# Altium schematic symbol library BUCKCONVERTER.SCHLIB: 50 symbols (part 1 of 2)
Pins are listed as number, name and electrical type; pins without a type are passive.

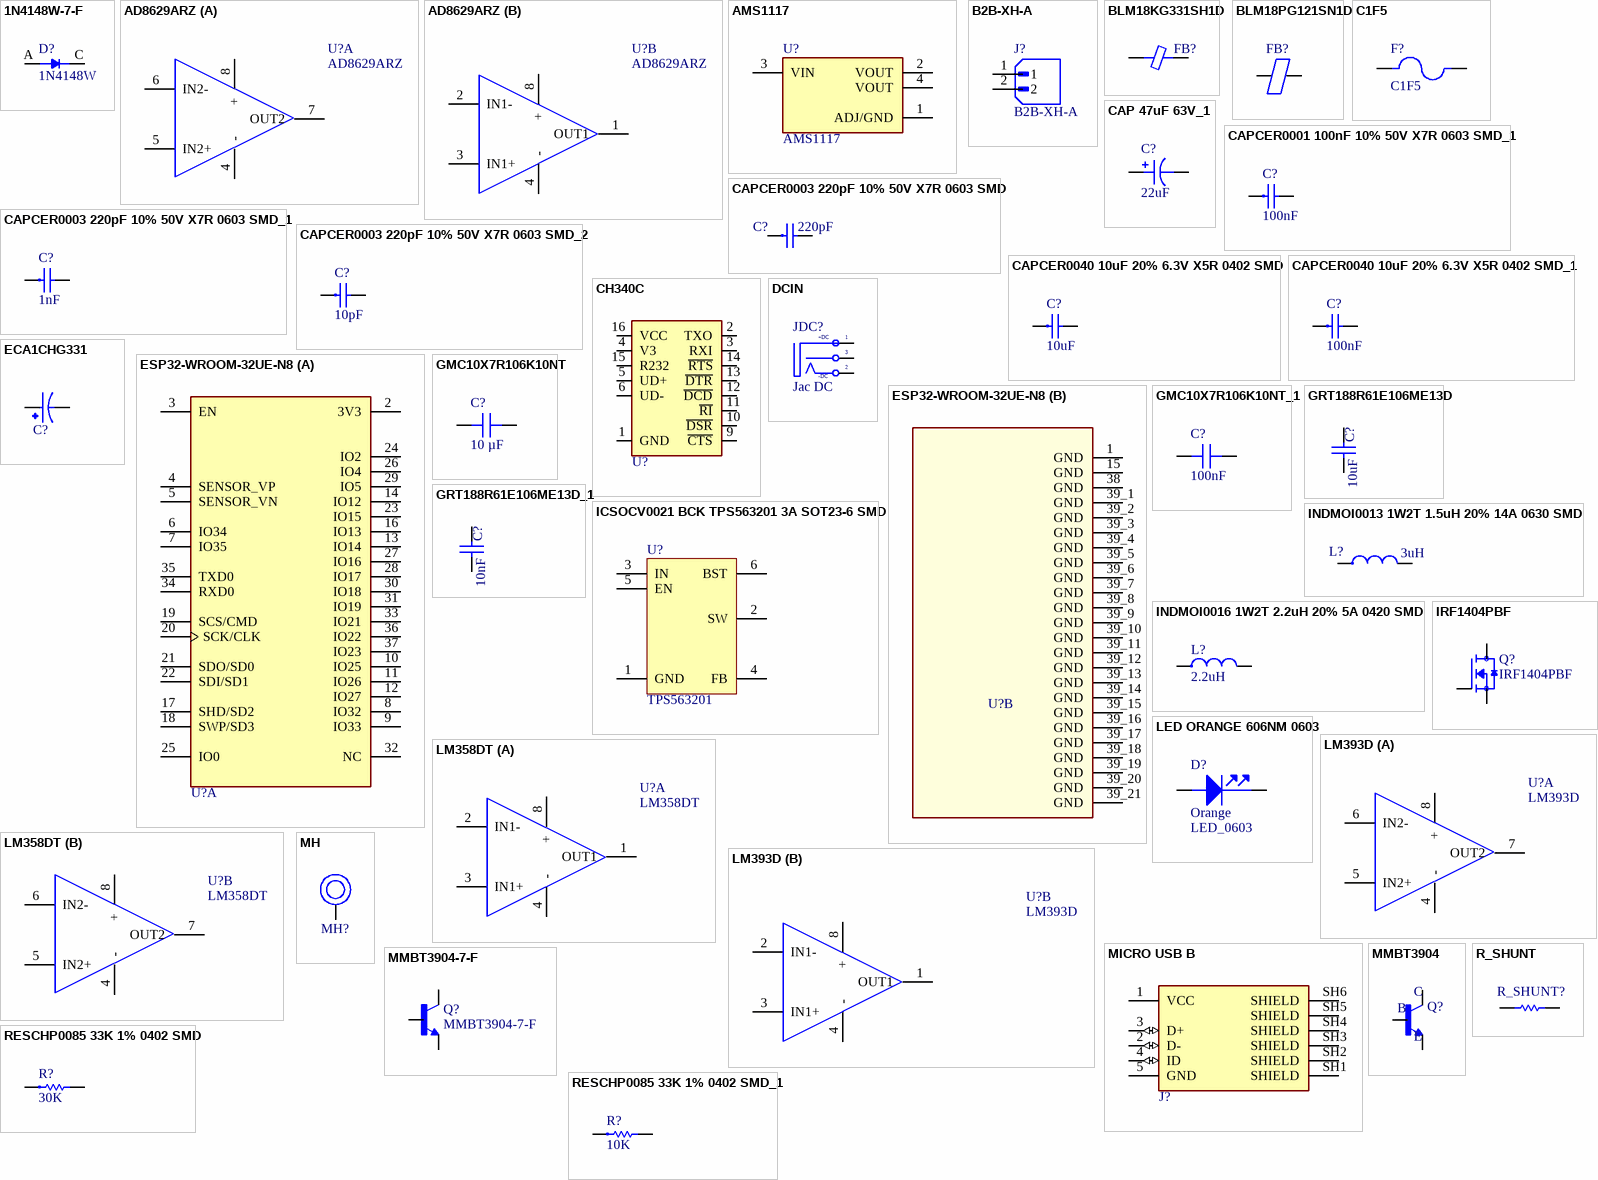
[diagram p0: symbols 1N4148W-7-F to RESCHP0085 33K 1% 0402 SMD_1]

## 1N4148W-7-F
designator D?, comment 1N4148W
Small Signal Diode, Single, 100 V, 300 Ma, 1.25 V, 4 Ns, 2 A Rohs Compliant: Yes; Manufacturer: Diodes; Manufacturer Part Number: 1N4148W-7-F; Forward Current: 150mA; Reverse Recovery Time: 4ns; Max Repetitive Reverse Voltage (Vrrm): 100V; Max Forward Surge Current (Ifsm): 2A; Max Reverse Current: 1uA; Forward Voltage: 1.25V; Average Rectified Current: 300mA; Power Dissipation: 400mW; Polarity: Standard; Capacitance: 2pF; Voltage Rating (DC): 75V; Supplier 1: Arrow Electronics; RoHS: Yes; Category: Rectifier Diodes; Stock 1: 4485000; Pricing 1: 9000=0.0099, 15000=0.0099, 21000=0.0099, 30000=0.0099, 75000=0.0099 (USD); Mount: Surface Mount; Number of Pins: 2; Weight: 0.000353oz; Min Operating Temperature: -65°C; Max Operating Temperature: 150°C; Packaging: Tape and Reel; Peak Non-Repetitive Surge Current: 2A; Max Surge Current: 2A; Package Quantity: 3000; Recovery Time: 4ns; Power Rating: 400mW; Current Rating: 150mA; Output Current: 150mA; Voltage: 100V; Max Reverse Voltage (DC): 100V; Series: -; Reverse Recovery Time-Max: 4ns; Reverse Voltage: 100V; Length: 2.85mm; Width: 1.7mm; Height: 1.25mm; Radiation Hardening: No; Reach SVHC Compliant: No; Lead Free: Lead Free; RoHS Compliant: Yes; ComponentLink1URL: https://datasheet.ciiva.com/8303/ds30086-8303197.pdf?src-supplier=Avnet; ComponentLink1Description: https://datasheet.ciiva.com/8303/ds30086-8303197.pdf?src-supplier=Avnet; ComponentLink2URL: https://datasheet.ciiva.com/911/ds30086-911735.pdf?src-supplier=Digikey; ComponentLink2Description: https://datasheet.ciiva.com/911/ds30086-911735.pdf?src-supplier=Digikey; ComponentLink3URL: https://datasheet.ciiva.com/911/ds30086-911736.pdf?src-supplier=Digikey; ComponentLink3Description: https://datasheet.ciiva.com/911/ds30086-911736.pdf?src-supplier=Digikey; ComponentLink4URL: https://datasheet.ciiva.com/911/ds30086-911734.pdf?src-supplier=Digikey; ComponentLink4Description: https://datasheet.ciiva.com/911/ds30086-911734.pdf?src-supplier=Digikey; ComponentLink5URL: https://datasheet.ciiva.com/1179/1915529-1179304.pdf?src-supplier=Element14; ComponentLink5Description: https://datasheet.ciiva.com/1179/1915529-1179304.pdf?src-supplier=Element14; ComponentLink6URL: https://datasheet.ciiva.com/22695/1915529-22695239.pdf?src-supplier=Element14; ComponentLink6Description: https://datasheet.ciiva.com/22695/1915529-22695239.pdf?src-supplier=Element14; ComponentLink7URL: https://datasheet.ciiva.com/8300/ds30086-8300392.pdf?src-supplier=Avnet; ComponentLink7Description: https://datasheet.ciiva.com/8300/ds30086-8300392.pdf?src-supplier=Avnet; ComponentLink8URL: https://datasheet.ciiva.com/15219/getdatasheetpartid-110030-15219548.pdf?src-supplier=Verical; ComponentLink8Description: https://datasheet.ciiva.com/15219/getdatasheetpartid-110030-15219548.pdf?src-supplier=Verical; ComponentLink9URL: https://datasheet.ciiva.com/4435/ds30086-4435128.pdf?src-supplier=Mouser; ComponentLink9Description: https://datasheet.ciiva.com/4435/ds30086-4435128.pdf?src-supplier=Mouser; Supplier Part Number 1: 1N4148W-7-F
footprint 1N4148
pins: A, C K

## AD8629ARZ
designator U?
IC OPAMP ZERO-DRIFT 2 CIRC 8SOIC Zero-Drift Amplifier 2 Circuit Rail-to-Rail 8-SOIC; Manufacturer: Analog Devices; Manufacturer Lifecycle Status: PRODUCTION; -3db Bandwidth: 2.5MHz; Common Mode Rejection Ratio: 140dB; Gain: 120dB; Input Bias Current: 30pA; Input Capacitance: 10pF; Input Offset Voltage (Vos): 5µV; Max Dual Supply Voltage: 2.5V; Max Supply Current: 2.2mA; Max Supply Voltage: 5V; Min Dual Supply Voltage: 1.35V; Min Supply Voltage: 2.7V; Number of Amplifiers: 2; Operating Supply Voltage: 3V; Output Current per Channel: 30mA; Power Supply Rejection Ratio (PSRR): 130dB; Quiescent Current: 1.1mA; Slew Rate: 1V/µs; Voltage Gain: 145dB; Supplier 1: Arrow Electronics; Manufacturer Part Number: AD8629ARZ; RoHS: Compliant; Category: Amplifiers - Op Amps, Buffer, Instrumentation; Stock 1: 3408; Pricing 1: 1=6,808, 10=4,527, 25=3,207, 98=2,961, 294=2,8, 588=2,655 (USD); Bandwidth: 2.5MHz; Case/Package: R; Contact Plating: Tin; Gain Bandwidth Product: 2.5MHz; Height: 1.5mm; Length: 5mm; Lifecycle Status: Production; Max Operating Temperature: 125°C; Min Operating Temperature: -40°C; Number of Channels: 2; Number of Circuits: 2; Number of Elements: 2; Number of Pins: 8; Operating Supply Current: 2.2mA; Radiation Hardening: No; REACH SVHC: No; Schedule B: 8542330000; Width: 4mm; ComponentLink1URL: https://datasheet.octopart.com:443/AD8629ARZ-Analog-Devices-datasheet-42968418.pdf?src-supplier=Analog+Devices; ComponentLink1Description: https://datasheet.octopart.com:443/AD8629ARZ-Analog-Devices-datasheet-42968418.pdf?src-supplier=Analog+Devices; ComponentLink2URL: https://octopart.com:443/opatz8j6/c1?t=aWeMBPM-JELAnCcbC-n1WTTrasgumx2A8BiJtAhLoS8u_17NOkMzPt3gzRWoakvQXXH3NC3R8gFX4G48g061UaBXGwogGE1Uj-8sqvtrqgK1sY7jDh3eWAwH1CQwPW1Jv6IADWKJqAiwnXxASv0RMDRSm7LbjcggLYfRMDkPTzyCQChyI1msocHWpd5h7OrGjev3Iz3E-o2_l5cB9yrdImHcqb4LtoQO-WcXBt-1DHy8NwqhYNIhrkYjFsx4VNs9gn0Mq788wCztvxO1GP0L9zgs0I_y0NnBDPP4_fEzu3H-nfdZ63w&src-supplier=Analog+Devices; ComponentLink2Description: https://octopart.com:443/opatz8j6/c1?t=aWeMBPM-JELAnCcbC-n1WTTrasgumx2A8BiJtAhLoS8u_17NOkMzPt3gzRWoakvQXXH3NC3R8gFX4G48g061UaBXGwogGE1Uj-8sqvtrqgK1sY7jDh3eWAwH1CQwPW1Jv6IADWKJqAiwnXxASv0RMDRSm7LbjcggLYfRMDkPTzyCQChyI1msocHWpd5h7OrGjev3Iz3E-o2_l5cB9yrdImHcqb4LtoQO-WcXBt-1DHy8NwqhYNIhrkYjFsx4VNs9gn0Mq788wCztvxO1GP0L9zgs0I_y0NnBDPP4_fEzu3H-nfdZ63w&src-supplier=Analog+Devices; ComponentLink3URL: https://datasheet.octopart.com:443/AD8629ARZ-Analog-Devices-datasheet-10103768.pdf?src-supplier=Upverter; ComponentLink3Description: https://datasheet.octopart.com:443/AD8629ARZ-Analog-Devices-datasheet-10103768.pdf?src-supplier=Upverter; ComponentLink4URL: https://datasheet.octopart.com:443/AD8629ARZ-Analog-Devices-datasheet-5322301.pdf?src-supplier=Upverter; ComponentLink4Description: https://datasheet.octopart.com:443/AD8629ARZ-Analog-Devices-datasheet-5322301.pdf?src-supplier=Upverter; ComponentLink5URL: https://datasheet.octopart.com:443/AD8629ARZ-Analog-Devices-datasheet-23752859.pdf?src-supplier=Upverter; ComponentLink5Description: https://datasheet.octopart.com:443/AD8629ARZ-Analog-Devices-datasheet-23752859.pdf?src-supplier=Upverter; ComponentLink6URL: https://datasheet.octopart.com:443/AD8629ARZ-Analog-Devices-datasheet-8858042.pdf?src-supplier=Upverter; ComponentLink6Description: https://datasheet.octopart.com:443/AD8629ARZ-Analog-Devices-datasheet-8858042.pdf?src-supplier=Upverter; ComponentLink7URL: https://datasheet.octopart.com:443/AD8629ARZ-Analog-Devices-datasheet-32048149.pdf?src-supplier=element14+APAC; ComponentLink7Description: https://datasheet.octopart.com:443/AD8629ARZ-Analog-Devices-datasheet-32048149.pdf?src-supplier=element14+APAC; ComponentLink8URL: https://datasheet.octopart.com:443/AD8629ARZ-Analog-Devices-datasheet-101563144.pdf?src-supplier=element14+APAC; ComponentLink8Description: https://datasheet.octopart.com:443/AD8629ARZ-Analog-Devices-datasheet-101563144.pdf?src-supplier=element14+APAC; ComponentLink9URL: https://datasheet.octopart.com:443/AD8629ARZ-Analog-Devices-datasheet-9458.pdf?src-supplier=TME; ComponentLink9Description: https://datasheet.octopart.com:443/AD8629ARZ-Analog-Devices-datasheet-9458.pdf?src-supplier=TME; ComponentLink10URL: https://datasheet.octopart.com:443/AD8629ARZ-Analog-Devices-datasheet-14139723.pdf?src-supplier=iiiC; ComponentLink10Description: https://datasheet.octopart.com:443/AD8629ARZ-Analog-Devices-datasheet-14139723.pdf?src-supplier=iiiC; ComponentLink11URL: https://datasheet.octopart.com:443/AD8629ARZ-Analog-Devices-datasheet-9815337.pdf?src-supplier=RS+(Formerly+Allied+Electronics); ComponentLink11Description: https://datasheet.octopart.com:443/AD8629ARZ-Analog-Devices-datasheet-9815337.pdf?src-supplier=RS+(Formerly+Allied+Electronics); ComponentLink12URL: http://sigma.octopart.com:80/conflict_mineral_statement/Analog-Devices-company-33.pdf?src-supplier=Compliance+Statements; ComponentLink12Description: http://sigma.octopart.com:80/conflict_mineral_statement/Analog-Devices-company-33.pdf?src-supplier=Compliance+Statements; ComponentLink13URL: https://octopart.com:443/opatz8j6/c1?t=GuIiLQSqHR5UtH-ccvOgZ_rMPgdoDO9MBhNGz1lrC6uFtX1Ty2dLJJE3esEi3LdxH2WSZGSDEcND3r14vXW1YQGdY8YbjY8rd4j2rV3vc971hwplIN7mnrJEC29glHuaUEUKb6evx9vL8H9Okke6qfKuVvzeC_JtJbwHi1gEpzxsUdW9RNtRF7Nil8ktKupsHU6F-uGzSovI8YJeOX7T-MxaDqzLTa9fFFbbKuS3iXo0ronF4OJTx1UqYg6AqVsvYcdlTWC_iXVQ4-Dde1iCmj54rakYuCUCE_xobSzT3w-tBTMj6Ew&src-supplier=Compliance+Statements; ComponentLink13Description: https://octopart.com:443/opatz8j6/c1?t=GuIiLQSqHR5UtH-ccvOgZ_rMPgdoDO9MBhNGz1lrC6uFtX1Ty2dLJJE3esEi3LdxH2WSZGSDEcND3r14vXW1YQGdY8YbjY8rd4j2rV3vc971hwplIN7mnrJEC29glHuaUEUKb6evx9vL8H9Okke6qfKuVvzeC_JtJbwHi1gEpzxsUdW9RNtRF7Nil8ktKupsHU6F-uGzSovI8YJeOX7T-MxaDqzLTa9fFFbbKuS3iXo0ronF4OJTx1UqYg6AqVsvYcdlTWC_iXVQ4-Dde1iCmj54rakYuCUCE_xobSzT3w-tBTMj6Ew&src-supplier=Compliance+Statements; Supplier Part Number 1: AD8629ARZ
footprint AD8629ARZ
part A pins: 4 -, 5 IN2+, 6 IN2-, 7 OUT2, 8 +
part B pins: 1 OUT1, 2 IN1-, 3 IN1+, 4 -, 8 +

## AMS1117
designator U?
1A LOW DROPOUT VOLTAGE REGULATOR SOT-223; MF: Advanced Monolithic Systems; Price: None; Availability: Not in stock; Package: SOT-223 Seeed Technology; MP: AMS1117; Value: *; SnapEDA_Link: https://www.snapeda.com/parts/AMS1117/Advanced+Monolithic+Systems/view-part/?ref=snap; Check_prices: https://www.snapeda.com/parts/AMS1117/Advanced+Monolithic+Systems/view-part/?ref=eda
footprint SOT229P700X180-4N
footprint AMS1117
pins: 1 ADJ/GND (power), 2 VOUT, 3 VIN, 4 VOUT

## B2B-XH-A
designator J?
MF: {'manufacturer': u'JST Sales America Inc.'}; Package: None; Price: None; Value: *; MP: B2B-XH-A; Availability: Unavailable
footprint JST_B2B-XH-A
pins: 1, 2

## BLM18KG331SH1D
designator FB?, comment 330 Ohms @ 100 MHz  (value not drawn)
FERRITE BEAD 330 OHM 0603 1LN; Part Number: BLM18KG331SH1D; Manufacturer: Murata Electronics; Current Rating (Max): 1.7A; DC Resistance (DCR) (Max): 80mOhm; Filter Type: Power Line; Number of Lines: 1; ComponentLink1Description: Datasheet; ComponentLink1URL: https://www.murata.com/en-global/products/productdata/8796737273886/QNFA9101.pdf; ComponentLink2Description: DigiKey Link; ComponentLink2URL: https://www.digikey.com/en/products/detail/murata-electronics/BLM18KG331SH1D/5881246; Device Package: 0603 (1608 Metric); Height (Max): 0.037" (0.95mm); Impedance @ Frequency: 330 Ohms @ 100 MHz; LastUpdated: 3/11/2024 7:43:28 AM; Lifecycle Status: Active; Minimum Order: 1; Mounting Type: Surface Mount; Operating Temperature: -55°C ~ 125°C; Package / Case: 0603 (1608 Metric); Packaging: TapeAndReel; PartId: 932; Part Status: Active; Price: 0.02; Ratings: AEC-Q200; Series: EMIFIL®, BLM18; Size / Dimension: 0.063" L x 0.032" W (1.60mm x 0.80mm); Supplier 1: DigiKey; Supplier Part Number 1: 490-13257-1-ND; Value: 330 Ohms @ 100 MHz
footprint FER 0603_1608
footprint FB_0603
pins: 1, 2

## BLM18PG121SN1D
designator FB?, comment 100MHz 2A 50mOhm  (value not drawn)
Ferrite Beads Multi-Layer 120Ohm 25% 100MHz 2A 50mOhm DCR 0603 Paper T/R; Manufacturer: Murata; Manufacturer Part Number: BLM18PG121SN1D; Material: Steel,Ferrite; Impedance: 120R; Number of Lines: 1; DC Resistance (DCR): 50mR; Number of Circuits: 1NUMBER; Shielding: 202Shielding; Supplier 1: Mouser; RoHS: Yes; Category: Ferrite Beads and Chips; Stock 1: 377848; Pricing 1: 1=0.1, 10=0.059, 50=0.047, 100=0.042, 1000=0.029, 10000=0.018 (USD); Case/Package: 0603; Number of Pins: 2; Core Material: Ferrite; Case Code (Metric): 1608; Case Code (Imperial): 0603; Min Operating Temperature: -55°C; Max Operating Temperature: 125°C; Tolerance: 25%; Package Quantity: 1; Max Current Rating: 2A; Packaging: Tape and Reel; Current Rating: 2A; Max DC Current: 2A; Termination: SMD/SMT; Test Frequency: 100MHz; DC Current: 2A; Frequency: 100MHz; Series: BLM18P; DC Resistance-Max: 50mR; RMS Current (Irms): 2A; Series Resistance: 50mR; Length: 1.6mm; Width: 0.8mm; Height: 0.8mm; Depth: 0.8mm; Radiation Hardening: No; Reach SVHC Compliant: No; Lead Free: Lead Free; RoHS Compliant: Yes; ComponentLink1URL: https://datasheet.ciiva.com/5709/1740433-5709171.pdf?src-supplier=Farnell; ComponentLink1Description: https://datasheet.ciiva.com/5709/1740433-5709171.pdf?src-supplier=Farnell; ComponentLink2URL: https://datasheet.ciiva.com/19454/1845013-19454715.pdf?src-supplier=Jameco; ComponentLink2Description: https://datasheet.ciiva.com/19454/1845013-19454715.pdf?src-supplier=Jameco; ComponentLink3URL: https://datasheet.ciiva.com/11799/0900766b81275ca5-11799546.pdf?src-supplier=Rs; ComponentLink3Description: https://datasheet.ciiva.com/11799/0900766b81275ca5-11799546.pdf?src-supplier=Rs; ComponentLink4URL: https://datasheet.ciiva.com/3854/5emiapbde-1-3854039.pdf?src-supplier=Arrow+Electronics; ComponentLink4Description: https://datasheet.ciiva.com/3854/5emiapbde-1-3854039.pdf?src-supplier=Arrow+Electronics; ComponentLink5URL: https://datasheet.ciiva.com/29347/442365-da-01-en-chip-drossel-0603-120r-2000ma-1-6x0-8mm-29347911.pdf?src-supplier=Conrad; ComponentLink5Description: https://datasheet.ciiva.com/29347/442365-da-01-en-chip-drossel-0603-120r-2000ma-1-6x0-8mm-29347911.pdf?src-supplier=Conrad; ComponentLink6URL: https://datasheet.ciiva.com/8021/1740433-8021493.pdf?src-supplier=Element14; ComponentLink6Description: https://datasheet.ciiva.com/8021/1740433-8021493.pdf?src-supplier=Element14; ComponentLink7URL: https://datasheet.ciiva.com/8021/1740433-8021494.pdf?src-supplier=Element14; ComponentLink7Description: https://datasheet.ciiva.com/8021/1740433-8021494.pdf?src-supplier=Element14; ComponentLink8URL: https://datasheet.ciiva.com/14122/blm-series-eng-tds-14122905.pdf?src-supplier=Distrelec; ComponentLink8Description: https://datasheet.ciiva.com/14122/blm-series-eng-tds-14122905.pdf?src-supplier=Distrelec; ComponentLink9URL: https://datasheet.ciiva.com/6212/l0110s0100blm18p-6212502.pdf?src-supplier=Digikey; ComponentLink9Description: https://datasheet.ciiva.com/6212/l0110s0100blm18p-6212502.pdf?src-supplier=Digikey; ComponentLink10URL: https://datasheet.ciiva.com/6212/l0110s0100blm18p-6212504.pdf?src-supplier=Digikey; ComponentLink10Description: https://datasheet.ciiva.com/6212/l0110s0100blm18p-6212504.pdf?src-supplier=Digikey; ComponentLink11URL: https://datasheet.ciiva.com/3081/l0110s0100blm18p-3081632.pdf?src-supplier=Avnet; ComponentLink11Description: https://datasheet.ciiva.com/3081/l0110s0100blm18p-3081632.pdf?src-supplier=Avnet; ComponentLink12URL: https://datasheet.ciiva.com/41449/001172297-da-01-en-drossel-0603-120r-1-6x0-8mm-4000st-41449659.pdf?src-supplier=Conrad; ComponentLink12Description: https://datasheet.ciiva.com/41449/001172297-da-01-en-drossel-0603-120r-1-6x0-8mm-4000st-41449659.pdf?src-supplier=Conrad; Supplier Part Number 1: 81-BLM18PG121SN1D
footprint FB 0603
pins: 1, 2

## C1F5
designator F?
Fuse Chip Fast Acting 5A 125V SMD Solder Pad 1206 3.2 X 1.58 X 0.63mm; Manufacturer: Bel TRP; Voltage Rating (DC): 63V; DC Cold Resistance: 20mR; Fuse Type: Board Mount (Cartridge Style Excluded); Supplier 1: Newark; Manufacturer Part Number: C1F5; RoHS: Yes; Category: Uncategorized; Mount: Surface Mount; Case/Package: 1206; Number of Pins: 2; Contact Plating: Tin; Case Code (Metric): 3216; Case Code (Imperial): 1206; Min Operating Temperature: -55°C; Max Operating Temperature: 125°C; Packaging: Cut Tape; Voltage Rating: 125V; Series: C1F; Voltage Rating (AC): 125V; ComponentLink1URL: http://www.mouser.com/ds/2/643/C1F-594910.pdf?src-supplier=Mouser; ComponentLink1Description: http://www.mouser.com/ds/2/643/C1F-594910.pdf?src-supplier=Mouser; ComponentLink2URL: http://belfuse.com/pdfs/C1F.pdf?src-supplier=Avnet; ComponentLink2Description: http://belfuse.com/pdfs/C1F.pdf?src-supplier=Avnet; ComponentLink3URL: https://belfuse.com/resources/datasheets/circuitprotection/ds-cp-c1f-series.pdf?src-supplier=Digikey; ComponentLink3Description: https://belfuse.com/resources/datasheets/circuitprotection/ds-cp-c1f-series.pdf?src-supplier=Digikey; Supplier Part Number 1: 48AC8480
footprint FUSE C1F5
pins: 1, 2

## CAP 47uF 63V_1
designator C?, comment 22uF
footprint 330UF-5mm
pins: 1, 2

## CAPCER0001 100nF 10% 50V X7R 0603 SMD_1
designator C?, comment 100nF
CAP CER 100nF 10% 50V X7R 0603 SMD; LINE: SMT; TYPE: EP; UNIT: PCS; TMG PN: CAPCER0001; TMG CODE: None; CERTIFICATION: NA; CLASS: B; MOUNT: SMD; ComponentLink1Description: Datasheet; ComponentLink1URL: https://datasheet.lcsc.com/lcsc/1811021431_Samsung-Electro-Mechanics-CL10B104KB8NNNC_C1591.pdf; Footprint: 0603
footprint CAP-CER0603-0.8H (CAP CER 0603 0.8 Height SMD Density Level B)
pins: 1, 2

## CAPCER0003 220pF 10% 50V X7R 0603 SMD
designator C?, comment 220pF
CAP CER 220pF 10% 50V X7R 0603 SMD; LINE: SMT; TYPE: EP; UNIT: PCS; TMG PN: CAPCER0003; TMG CODE: None; CERTIFICATION: NA; CLASS: B; MOUNT: SMD; ComponentLink1Description: Datasheet; ComponentLink1URL: https://datasheet.lcsc.com/lcsc/1810261515_Samsung-Electro-Mechanics-CL10B221KB8NNNC_C1603.pdf; Footprint: 0603
footprint CAP-CER0603-0.8H (CAP CER 0603 0.8 Height SMD Density Level B)
pins: 1, 2

## CAPCER0003 220pF 10% 50V X7R 0603 SMD_1
designator C?, comment 1nF
CAP CER 220pF 10% 50V X7R 0603 SMD; LINE: SMT; TYPE: EP; UNIT: PCS; TMG PN: CAPCER0003; TMG CODE: None; CERTIFICATION: NA; CLASS: B; MOUNT: SMD; ComponentLink1Description: Datasheet; ComponentLink1URL: https://datasheet.lcsc.com/lcsc/1810261515_Samsung-Electro-Mechanics-CL10B221KB8NNNC_C1603.pdf; Footprint: 0603
footprint CAP-CER0603-0.8H (CAP CER 0603 0.8 Height SMD Density Level B)
pins: 1, 2

## CAPCER0003 220pF 10% 50V X7R 0603 SMD_2
designator C?, comment 10pF
CAP CER 220pF 10% 50V X7R 0603 SMD; LINE: SMT; TYPE: EP; UNIT: PCS; TMG PN: CAPCER0003; TMG CODE: None; CERTIFICATION: NA; CLASS: B; MOUNT: SMD; ComponentLink1Description: Datasheet; ComponentLink1URL: https://datasheet.lcsc.com/lcsc/1810261515_Samsung-Electro-Mechanics-CL10B221KB8NNNC_C1603.pdf; Footprint: 0603
footprint CAP-CER0603-0.8H (CAP CER 0603 0.8 Height SMD Density Level B)
pins: 1, 2

## CAPCER0040 10uF 20% 6.3V X5R 0402 SMD
designator C?, comment 10uF
CAP CER 10uF 20% 6.3V X5R 0402 SMD; LINE: SMT; TYPE: EP; UNIT: PCS; TMG PN: CAPCER0013; TMG CODE: None; CERTIFICATION: NA; CLASS: B; MOUNT: SMD; ComponentLink1Description: Datasheet; ComponentLink1URL: https://datasheet.lcsc.com/lcsc/2304140030_YAGEO-CC0402MRX5R5BB106_C105884.pdf; Footprint: 0402
footprint CAP-CER0402-20mil (CAP CER 0402 0.5 Height SMD Density Level B)
pins: 1, 2

## CAPCER0040 10uF 20% 6.3V X5R 0402 SMD_1
designator C?, comment 100nF
CAP CER 10uF 20% 6.3V X5R 0402 SMD; LINE: SMT; TYPE: EP; UNIT: PCS; TMG PN: CAPCER0013; TMG CODE: None; CERTIFICATION: NA; CLASS: B; MOUNT: SMD; ComponentLink1Description: Datasheet; ComponentLink1URL: https://datasheet.lcsc.com/lcsc/2304140030_YAGEO-CC0402MRX5R5BB106_C105884.pdf; Footprint: 0402
footprint CAP-CER0402-20mil (CAP CER 0402 0.5 Height SMD Density Level B)
pins: 1, 2

## CH340C
designator U?  (value not drawn)
footprint CH340C
pins: 1 GND, 2 TXO, 3 RXI, 4 V3, 5 UD+, 6 UD-, 9 ~{CTS}, 10 ~{DSR}, 11 ~{RI}, 12 ~{DCD}, 13 ~{DTR}, 14 ~{RTS}, 15 R232, 16 VCC

## DCIN
designator JDC?, comment Jac DC
Jac DC input; Value: Jac DC
footprint DC0 (Jac DC input)
footprint DC1 (WR-DC_DC Power Jack_Right Angled_THT Center Pin ?0.65_Plug ID ?0.75_Plug OD ?2.35_with Peg)
footprint DC2 (WR-DC_DC Power Jack_Vertical_THT WR-DC_DC Power Jack_Vertical_THT)
footprint DC3 (WR-DC_DC Power Jack_Vertical_THT Center Pin ?2.5_Plug ID ?2.55_Plug OD ?5.5)
footprint DC4 (WR-DC_DC Power Jack_Right Angled_THT Center Pin ?1.0_Plug ID ?1.05_Plug OD ?3.5_with Peg)
footprint DC5 (WR-DC_DC Power Jack_Right Angled_THT Center Pin ?1.3_Plug ID ?1.35_Plug OD ?3.5_with Peg)
pins: 1 T "Tip", 2 TN "Tip Normal (Break Contact)", 3 S (power) "Sleeve (Ground)"
text: +DC; -DC

## ECA1CHG331
designator C?  (value not drawn)
Cap Aluminum 330uF 16V 20% (8 X 11.5mm) Radial Aluminum Cylindrical Can 3.5mm 260mA 1000 hr 105C Bulk; MP: ECA-1CHG331; MF: Panasonic; Availability: In Stock; Package: RADIAL-2 Panasonic; Check_prices: https://www.snapeda.com/parts/ECA-1CHG331/Panasonic/view-part/?ref=eda; Price: None; SnapEDA_Link: https://www.snapeda.com/parts/ECA-1CHG331/Panasonic/view-part/?ref=snap; Value: *; Purchase-URL: https://pricing.snapeda.com/search/part/ECA-1CHG331/?ref=eda
footprint CAPPRD350W60D800H1150
footprint 330UF-5mm
pins: 1, 2

## ESP32-WROOM-32UE-N8
designator U?  (value not drawn)
Multiprotocol Modules SMD module ESP32-WROOM-32UE, ESP32-D0WD-V3, ESP32 ECO V3,; Manufacturer: Espressif Systems; Supplier 1: Digikey; Manufacturer Part Number: ESP32-WROOM-32UE-N8; RoHS: No; Category: LDO; Stock 1: 3266; Pricing 1: 1=5,28, 10=4,566, 25=4,3196, 100=3,9802, 250=3,7768 (USD); ComponentLink1URL: https://datasheet.octopart.com/ESP32-WROOM-32UE-N8-Espressif-Systems-datasheet-188867343.pdf?src-supplier=TME; ComponentLink1Description: https://datasheet.octopart.com/ESP32-WROOM-32UE-N8-Espressif-Systems-datasheet-188867343.pdf?src-supplier=TME; Supplier Part Number 1: 1965-ESP32-WROOM-32UE-N8CT-ND
footprint ESP32S
part A pins: 2 3V3, 3 EN, 4 SENSOR_VP, 5 SENSOR_VN, 6 IO34, 7 IO35, 8 IO32, 9 IO33, 10 IO25, 11 IO26, 12 IO27, 13 IO14, 14 IO12, 16 IO13, 17 SHD/SD2, 18 SWP/SD3, 19 SCS/CMD, 20 SCK/CLK, 21 SDO/SD0, 22 SDI/SD1, 23 IO15, 24 IO2, 25 IO0, 26 IO4, 27 IO16, 28 IO17, 29 IO5, 30 IO18, 31 IO19, 32 NC, 33 IO21, 34 RXD0, 35 TXD0, 36 IO22, 37 IO23
part B pins: 1 GND, 15 GND, 38 GND, 39_1 GND, 39_2 GND, 39_3 GND, 39_4 GND, 39_5 GND, 39_6 GND, 39_7 GND, 39_8 GND, 39_9 GND, 39_10 GND, 39_11 GND, 39_12 GND, 39_13 GND, 39_14 GND, 39_15 GND, 39_16 GND, 39_17 GND, 39_18 GND, 39_19 GND, 39_20 GND, 39_21 GND

## GMC10X7R106K10NT
designator C?, comment 10 µF
CAP0603 X7R 10UF 10% 10V; Part Number: GMC10X7R106K10NT; manufacturer: Cal-Chip Electronics, Inc.; Applications: General Purpose; Capacitance: 10 µF; componentlink1description: Datasheet; componentlink1url: https://88ce57.p3cdn1.secureserver.net/wp-content/uploads/2023/01/gmc_series-2.pdf; componentlink2description: DigiKey Link; componentlink2url: https://www.digikey.com/en/products/detail/cal-chip-electronics-inc/GMC10X7R106K10NT/18151126; Device Package: 0603 (1608 Metric); lastupdated: 2/9/2024 8:09:39 PM; Lifecycle Status: Active; Minimum Order: 1; Mounting Type: Surface Mount, MLCC; Operating Temperature: -55°C ~ 125°C; Package / Case: 0603 (1608 Metric); packaging: TapeAndReel; partid: 49835; Part Status: Active; price: 0.26; series: GMC; Size / Dimension: 0.063" L x 0.031" W (1.60mm x 0.80mm); Supplier 1: DigiKey; Supplier Part Number 1: 4713-GMC10X7R106K10NTCT-ND; Temperature Coefficient: X7R; Thickness (Max): 0.039" (1.00mm); Tolerance: ±10%; Voltage - Rated: 10V; Value: 10 µF
footprint CAP 0603_1608
footprint CAP 0603
pins: 1, 2

## GMC10X7R106K10NT_1
designator C?, comment 100nF
CAP0603 X7R 10UF 10% 10V; Part Number: GMC10X7R106K10NT; manufacturer: Cal-Chip Electronics, Inc.; Capacitance: 10 µF; Value: 100nF; Applications: General Purpose; componentlink1description: Datasheet; componentlink1url: https://88ce57.p3cdn1.secureserver.net/wp-content/uploads/2023/01/gmc_series-2.pdf; componentlink2description: DigiKey Link; componentlink2url: https://www.digikey.com/en/products/detail/cal-chip-electronics-inc/GMC10X7R106K10NT/18151126; Device Package: 0603 (1608 Metric); lastupdated: 2/9/2024 8:09:39 PM; Lifecycle Status: Active; Minimum Order: 1; Mounting Type: Surface Mount, MLCC; Operating Temperature: -55°C ~ 125°C; Package / Case: 0603 (1608 Metric); packaging: TapeAndReel; partid: 49835; Part Status: Active; price: 0.26; series: GMC; Size / Dimension: 0.063" L x 0.031" W (1.60mm x 0.80mm); Supplier 1: DigiKey; Supplier Part Number 1: 4713-GMC10X7R106K10NTCT-ND; Temperature Coefficient: X7R; Thickness (Max): 0.039" (1.00mm); Tolerance: ±10%; Voltage - Rated: 10V
footprint CAP 0603_1608
footprint CAP 0603
pins: 1, 2

## GRT188R61E106ME13D
designator C?, comment 10uF
SMD Multilayer Ceramic Capacitor, 10 ï¿½F, 25 V, 0603 [1608 Metric], ï¿½ 20%, X5R; Manufacturer: Murata; Manufacturer Part Number: GRT188R61E106ME13D; Material: 4241ConductorMaterial; Voltage Rating: 25V; Supplier 1: Digikey; RoHS: No; Category: Ceramic Capacitors; Stock 1: 354696; Pricing 1: 1=0.25, 10=0.151, 100=0.0931, 4000=0.06965, 8000=0.0635, 12000=0.05993, 20000=0.05654, 28000=0.04257 (USD); Mount: Surface Mount; Case/Package: 0603; Case Code (Metric): 1608; Case Code (Imperial): 0603; Weight: 0.000917oz; Min Operating Temperature: -55°C; Max Operating Temperature: 85°C; Packaging: Cut Tape; Capacitance: 10uF; Tolerance: 20%; Series: GRT; Termination: Standard; Voltage Rating (DC): 25V; Dielectric: X5R; Package Quantity: 4000; Length: 1.6mm; Width: 0.8mm; Height: 0.8mm; Ratings: AEC-Q200; RoHS Compliant: No; ComponentLink1URL: https://datasheet.octopart.com/GRT188R61E106ME13D-Murata-datasheet-149523595.pdf?src-supplier=Newark; ComponentLink1Description: https://datasheet.octopart.com/GRT188R61E106ME13D-Murata-datasheet-149523595.pdf?src-supplier=Newark; ComponentLink2URL: https://datasheet.octopart.com/GRT188R61E106ME13D-Murata-datasheet-82944876.pdf?src-supplier=Future+Electronics; ComponentLink2Description: https://datasheet.octopart.com/GRT188R61E106ME13D-Murata-datasheet-82944876.pdf?src-supplier=Future+Electronics; ComponentLink3URL: http://search.murata.co.jp/Ceramy/image/img/A01X/G101/ENG/GRT188R61E106ME13-01.pdf?src-supplier=Digikey; ComponentLink3Description: http://search.murata.co.jp/Ceramy/image/img/A01X/G101/ENG/GRT188R61E106ME13-01.pdf?src-supplier=Digikey; ComponentLink4URL: https://search.murata.co.jp/Ceramy/image/img/A01X/G101/ENG/GRT188R61E106ME13-01.pdf?src-supplier=Digikey; ComponentLink4Description: https://search.murata.co.jp/Ceramy/image/img/A01X/G101/ENG/GRT188R61E106ME13-01.pdf?src-supplier=Digikey; ComponentLink5URL: https://datasheet.octopart.com/GRT188R61E106ME13D-Murata-datasheet-165579666.pdf?src-supplier=TME; ComponentLink5Description: https://datasheet.octopart.com/GRT188R61E106ME13D-Murata-datasheet-165579666.pdf?src-supplier=TME; Supplier Part Number 1: 490-12323-1-ND
footprint Cap cer 0603
pins: 1, 2

## GRT188R61E106ME13D_1
designator C?, comment 10nF
SMD Multilayer Ceramic Capacitor, 10 ï¿½F, 25 V, 0603 [1608 Metric], ï¿½ 20%, X5R; Manufacturer: Murata; Manufacturer Part Number: GRT188R61E106ME13D; Material: 4241ConductorMaterial; Capacitance: 10uF; Voltage Rating: 25V; Supplier 1: Digikey; RoHS: No; Category: Ceramic Capacitors; Stock 1: 354696; Pricing 1: 1=0.25, 10=0.151, 100=0.0931, 4000=0.06965, 8000=0.0635, 12000=0.05993, 20000=0.05654, 28000=0.04257 (USD); Mount: Surface Mount; Case/Package: 0603; Case Code (Metric): 1608; Case Code (Imperial): 0603; Weight: 0.000917oz; Min Operating Temperature: -55°C; Max Operating Temperature: 85°C; Packaging: Cut Tape; Tolerance: 20%; Series: GRT; Termination: Standard; Voltage Rating (DC): 25V; Dielectric: X5R; Package Quantity: 4000; Length: 1.6mm; Width: 0.8mm; Height: 0.8mm; Ratings: AEC-Q200; RoHS Compliant: No; ComponentLink1URL: https://datasheet.octopart.com/GRT188R61E106ME13D-Murata-datasheet-149523595.pdf?src-supplier=Newark; ComponentLink1Description: https://datasheet.octopart.com/GRT188R61E106ME13D-Murata-datasheet-149523595.pdf?src-supplier=Newark; ComponentLink2URL: https://datasheet.octopart.com/GRT188R61E106ME13D-Murata-datasheet-82944876.pdf?src-supplier=Future+Electronics; ComponentLink2Description: https://datasheet.octopart.com/GRT188R61E106ME13D-Murata-datasheet-82944876.pdf?src-supplier=Future+Electronics; ComponentLink3URL: http://search.murata.co.jp/Ceramy/image/img/A01X/G101/ENG/GRT188R61E106ME13-01.pdf?src-supplier=Digikey; ComponentLink3Description: http://search.murata.co.jp/Ceramy/image/img/A01X/G101/ENG/GRT188R61E106ME13-01.pdf?src-supplier=Digikey; ComponentLink4URL: https://search.murata.co.jp/Ceramy/image/img/A01X/G101/ENG/GRT188R61E106ME13-01.pdf?src-supplier=Digikey; ComponentLink4Description: https://search.murata.co.jp/Ceramy/image/img/A01X/G101/ENG/GRT188R61E106ME13-01.pdf?src-supplier=Digikey; ComponentLink5URL: https://datasheet.octopart.com/GRT188R61E106ME13D-Murata-datasheet-165579666.pdf?src-supplier=TME; ComponentLink5Description: https://datasheet.octopart.com/GRT188R61E106ME13D-Murata-datasheet-165579666.pdf?src-supplier=TME; Supplier Part Number 1: 490-12323-1-ND
footprint Cap cer 0603
pins: 1, 2

## ICSOCV0021 BCK TPS563201 3A SOT23-6 SMD
designator U?, comment TPS563201
ICS OCV BCK TPS563201 3A SOT23-6 SMD; LINE: SMT; UNIT: PCS; TMG CODE: None; CERTIFICATION: NA; CLASS: B; MOUNT: SMD; TYPE: EP; ComponentLink1Description: Datasheet; ComponentLink1URL: https://datasheet.lcsc.com/lcsc/2304241919_Texas-Instruments-TPS563201DDCR_C116592.pdf
footprint SOT23-6 (SOT23, 6-Leads, Body 2.90x2.80mm, Pitch 0.95mm, IPC Medium Density)
pins: 1 GND (power), 2 SW, 3 IN (power), 4 FB, 5 EN, 6 BST

## INDMOI0013 1W2T 1.5uH 20% 14A 0630 SMD
designator L?, comment 3uH
IND MOI 1W2T 1.5uH 20% 14A 0630 SMD; LINE: SMT; TYPE: EP; UNIT: PCS; TMG CODE: None; CERTIFICATION: NA; CLASS: B; MOUNT: SMD; ComponentLink1Description: Datasheet; ComponentLink1URL: https://datasheet.lcsc.com/lcsc/2210101130_SHOU-HAN-CYA0630-1-5UH_C5189745.pdf
footprint IND-06030-1uH (IND CHP 0630 SMD)
pins: 1, 2

## INDMOI0016 1W2T 2.2uH 20% 5A 0420 SMD
designator L?, comment 2.2uH
IND MOI 1W2T 2.2uH 20% 5A 0420 SMD; LINE: SMT; TYPE: EP; UNIT: PCS; TMG CODE: None; CERTIFICATION: NA; CLASS: B; MOUNT: SMD; ComponentLink1Description: Datasheet; ComponentLink1URL: https://datasheet.lcsc.com/lcsc/2305161117_cjiang--Changjiang-Microelectronics-Tech-FXL0420-2R2-M_C167206.pdf
footprint IND-0420-2R2 (IND MOI 1W2P 4.4x4.2x1.8)
pins: 1, 2

## IRF1404PBF
designator Q?
Single N-Channel 40 V 0.004 Ohm 196 nC HEXFET® Power Mosfet - TO-220-3; Manufacturer: Infineon; Continuous Drain Current (ID): 75A; Current Rating: 162A; Drain to Source Breakdown Voltage: 40V; Drain to Source Resistance: 4mΩ; Fall Time: 33ns; Gate to Source Voltage (Vgs): 20V; Input Capacitance: 5.669nF; Max Junction Temperature (Tj): 175°C; Max Power Dissipation: 200W; Nominal Vgs: 4V; Number of Channels: 1; Recovery Time: 117ns; Rise Time: 190ns; Turn-Off Delay Time: 46ns; Turn-On Delay Time: 17ns; Supplier 1: Arrow Electronics; Manufacturer Part Number: IRF1404PBF; RoHS: Compliant; Category: MOSFETs; Stock 1: 284019; Pricing 1: 1=0,5792 (USD); Case/Package: TO-220AB; China RoHS: Non-Compliant; Contact Plating: Tin; Drain to Source Voltage (Vdss): 40V; Dual Supply Voltage: 40V; Element Configuration: Single; Height: 19.8mm; Lead Free: Lead Free; Lead Pitch: 2.54mm; Length: 10.668mm; Lifecycle Status: Production; Max Operating Temperature: 175°C; Min Breakdown Voltage: 40V; Min Operating Temperature: -55°C; Mount: Through Hole; Number of Elements: 1; Number of Pins: 3; Number of Terminals: 3; On-State Resistance: 4mΩ; Package Quantity: 1000; Packaging: Bulk; Power Dissipation: 200W; Radiation Hardening: No; Rds On Max: 4mΩ; REACH SVHC: Yes; Resistance: 4mΩ; Schedule B: 8541290080, 8541290080|8541290080, 8541290080|8541290080|8541290080, 8541290080|8541290080|8541290080|8541290080; Termination: Through Hole; Threshold Voltage: 4V; Voltage Rating (DC): 40V; Width: 4.826mm; ComponentLink1URL: https://datasheet.octopart.com:443/IRF1404PBF-Infineon-datasheet-180066866.pdf?src-supplier=IHS; ComponentLink1Description: https://datasheet.octopart.com:443/IRF1404PBF-Infineon-datasheet-180066866.pdf?src-supplier=IHS; ComponentLink2URL: https://datasheet.octopart.com:443/IRF1404PBF-Infineon-datasheet-62314054.pdf?src-supplier=IHS; ComponentLink2Description: https://datasheet.octopart.com:443/IRF1404PBF-Infineon-datasheet-62314054.pdf?src-supplier=IHS; ComponentLink3URL: https://datasheet.octopart.com:443/IRF1404PBF-Infineon-datasheet-8117651.pdf?src-supplier=IHS; ComponentLink3Description: https://datasheet.octopart.com:443/IRF1404PBF-Infineon-datasheet-8117651.pdf?src-supplier=IHS; ComponentLink4URL: https://datasheet.octopart.com:443/IRF1404PBF-Infineon-datasheet-10898762.pdf?src-supplier=Factory+Futures; ComponentLink4Description: https://datasheet.octopart.com:443/IRF1404PBF-Infineon-datasheet-10898762.pdf?src-supplier=Factory+Futures; ComponentLink5URL: https://datasheet.octopart.com:443/IRF1404PBF-Infineon-datasheet-8329159.pdf?src-supplier=Factory+Futures; ComponentLink5Description: https://datasheet.octopart.com:443/IRF1404PBF-Infineon-datasheet-8329159.pdf?src-supplier=Factory+Futures; ComponentLink6URL: https://datasheet.octopart.com:443/IRF1404PBF-International-Rectifier-datasheet-7273.pdf?src-supplier=Newark; ComponentLink6Description: https://datasheet.octopart.com:443/IRF1404PBF-International-Rectifier-datasheet-7273.pdf?src-supplier=Newark; ComponentLink7URL: https://datasheet.octopart.com:443/IRF1404PBF-International-Rectifier-datasheet-14061466.pdf?src-supplier=iiiC; ComponentLink7Description: https://datasheet.octopart.com:443/IRF1404PBF-International-Rectifier-datasheet-14061466.pdf?src-supplier=iiiC; ComponentLink8URL: https://datasheet.octopart.com:443/IRF1404-International-Rectifier-datasheet-10847710.pdf?src-supplier=iiiC; ComponentLink8Description: https://datasheet.octopart.com:443/IRF1404-International-Rectifier-datasheet-10847710.pdf?src-supplier=iiiC; ComponentLink9URL: https://datasheet.octopart.com:443/IRF1404PBF-Infineon-datasheet-10021476.pdf?src-supplier=RS+(Formerly+Allied+Electronics); ComponentLink9Description: https://datasheet.octopart.com:443/IRF1404PBF-Infineon-datasheet-10021476.pdf?src-supplier=RS+(Formerly+Allied+Electronics); ComponentLink10URL: https://datasheet.octopart.com:443/IRF1404PBF-International-Rectifier-datasheet-7628077.pdf?src-supplier=Jameco; ComponentLink10Description: https://datasheet.octopart.com:443/IRF1404PBF-International-Rectifier-datasheet-7628077.pdf?src-supplier=Jameco; ComponentLink11URL: https://datasheet.octopart.com:443/IRF1404PBF-International-Rectifier-datasheet-8134560.pdf?src-supplier=Farnell; ComponentLink11Description: https://datasheet.octopart.com:443/IRF1404PBF-International-Rectifier-datasheet-8134560.pdf?src-supplier=Farnell; ComponentLink12URL: https://datasheet.octopart.com:443/IRF1404PBF-International-Rectifier-datasheet-90335.pdf?src-supplier=DigiKey; ComponentLink12Description: https://datasheet.octopart.com:443/IRF1404PBF-International-Rectifier-datasheet-90335.pdf?src-supplier=DigiKey; ComponentLink13URL: http://sigma.octopart.com:80/conflict_mineral_statement/Infineon-company-51.pdf?src-supplier=Compliance+Statements; ComponentLink13Description: http://sigma.octopart.com:80/conflict_mineral_statement/Infineon-company-51.pdf?src-supplier=Compliance+Statements; ComponentLink14URL: http://sigma.octopart.com:80/rohs_statement/International-Rectifier-company-54.pdf?src-supplier=Compliance+Statements; ComponentLink14Description: http://sigma.octopart.com:80/rohs_statement/International-Rectifier-company-54.pdf?src-supplier=Compliance+Statements; ComponentLink15URL: http://sigma.octopart.com:80/reach_statement/International-Rectifier-company-55.pdf?src-supplier=Compliance+Statements; ComponentLink15Description: http://sigma.octopart.com:80/reach_statement/International-Rectifier-company-55.pdf?src-supplier=Compliance+Statements; Supplier Part Number 1: IRF1404PBF
footprint TO220 AB
pins: 1 G, 2 D, 3 S

## LED ORANGE 606NM 0603
designator D?, comment Orange  Package / Case: LED_0603
LED SMARTLED ORANGE 606NM 0603; Manufacturer: OSRAM Opto Semiconductors Inc; Manufacturer Part Number: LO L29K-H2K1-24-Z; Millicandela Rating: 6.3mcd; Voltage - Forward (Vf) Typ: 1.8V; Current - Test: 2mA; Wavelength - Peak: 610nm; Viewing Angle: 160°; Lens Type: Diffused; Lens Style/Size: Rectangle with Flat Top, 1.3mm x 0.8mm; Luminous Flux @ Current - Test: 25 mlm; By: Hieu.Nguyen_20191030; Supplier 1: Digi-Key; Supplier Part Number 1: 475-2740-1-ND; RoHS: RoHS Compliant; Category: Optoelectronics; Stock 1: 15900; Pricing 1: 1=0.17, 10=0.141, 100=0.1127, 250=0.0986, 500=0.09016 (USD); Color: Orange; Wavelength - Dominant: 606nm; Size / Dimension: 1.70mm L x 0.80mm W; Height: 0.65mm; Mounting Type: Surface Mount; Packaging: Cut Tape (CT); ComponentLink1URL: http://catalog.osram-os.com/catalogue/catalogue.do;jsessionid=302CF83AF637AE24E40AEB0ADA267EDD?act=downloadFile&favOid=020000010003f9de000100b6; ComponentLink1Description: http://catalog.osram-os.com/catalogue/catalogue.do;jsessionid=302CF83AF637AE24E40AEB0ADA267EDD?act=downloadFile&favOid=020000010003f9de000100b6
footprint LED
pins: 1 ANODE, 2 cathode

## LM358DT
designator U?
Operational Amplifier, 2-Channels, 1.1 MHz, 0.6 V/us, 3 V to 30 V, 8 Pins, SOIC; Manufacturer: STMicroelectronics; Supplier 1: Arrow Electronics; Manufacturer Part Number: LM358DT; RoHS: Yes; Category: Amplifiers - Op Amps, Buffer, Instrumentation; Stock 1: 6035000; Pricing 1: 2500=0,0596, 10000=0,056, 20000=0,0553 (USD); Lead Free: 5697LeadFree; ComponentLink1URL: https://datasheet.ciiva.com/15129/getdatasheetpartid-39583-15129679.pdf?src-supplier=Verical; ComponentLink1Description: https://datasheet.ciiva.com/15129/getdatasheetpartid-39583-15129679.pdf?src-supplier=Verical; ComponentLink2URL: https://datasheet.ciiva.com/29306/155599-da-01-en-op-verst-lm358dt-stm-29306826.pdf?src-supplier=Conrad; ComponentLink2Description: https://datasheet.ciiva.com/29306/155599-da-01-en-op-verst-lm358dt-stm-29306826.pdf?src-supplier=Conrad; ComponentLink3URL: https://datasheet.ciiva.com/14544/70013561-14544747.pdf?src-supplier=Allied+Electronics; ComponentLink3Description: https://datasheet.ciiva.com/14544/70013561-14544747.pdf?src-supplier=Allied+Electronics; ComponentLink4URL: https://datasheet.ciiva.com/16371/cd00000464-16371207.pdf?src-supplier=Future+Electronics; ComponentLink4Description: https://datasheet.ciiva.com/16371/cd00000464-16371207.pdf?src-supplier=Future+Electronics; ComponentLink5URL: https://datasheet.ciiva.com/1795/cd00000464-1795490.pdf?src-supplier=Digikey; ComponentLink5Description: https://datasheet.ciiva.com/1795/cd00000464-1795490.pdf?src-supplier=Digikey; ComponentLink6URL: https://datasheet.ciiva.com/1795/cd00000464-1795491.pdf?src-supplier=Digikey; ComponentLink6Description: https://datasheet.ciiva.com/1795/cd00000464-1795491.pdf?src-supplier=Digikey; ComponentLink7URL: https://datasheet.ciiva.com/1795/cd00000464-1795492.pdf?src-supplier=Digikey; ComponentLink7Description: https://datasheet.ciiva.com/1795/cd00000464-1795492.pdf?src-supplier=Digikey; Supplier Part Number 1: LM358DT
footprint SOIC 8
part A pins: 1 OUT1, 2 IN1-, 3 IN1+, 4 -, 8 +
part B pins: 4 -, 5 IN2+, 6 IN2-, 7 OUT2, 8 +

## LM393D
designator U?
LM393 Series Dual 36 V 250 nA SMT Low Power Voltage Comparator - SOIC-8; Manufacturer: STMicroelectronics; Dual Supply Voltage: 9V; Input Bias Current: 250nA; Input Offset Voltage (Vos): 9mV; Max Dual Supply Voltage: 18V; Max Junction Temperature (Tj): 150°C; Max Power Dissipation: 710mW; Max Supply Current: 2.5mA; Max Supply Voltage: 36V; Min Dual Supply Voltage: 1V; Min Supply Voltage: 2V; Natural Thermal Resistance: 125°C/W; Nominal Supply Current: 1mA; Number of Channels: 2; Operating Supply Voltage: 5V; Output Current per Channel: 18mA; Output Type: TTL; Propagation Delay: 1.3µs; Voltage Gain: 106.02dB; Supplier 1: Arrow Electronics; Manufacturer Part Number: LM393D; RoHS: Compliant; Category: Comparators; Stock 1: 279976; Pricing 1: 1=0,3302, 10=0,325, 25=0,324, 100=0,322, 250=0,32, 2000=0,319, 4000=0,238 (USD); Ambient Temperature Range High: 70°C; Case/Package: SO; China RoHS: Compliant; Height: 1.75mm; Height - Seated (Max): 1.75mm; Lead Free: Lead Free; Length: 4.9mm; Lifecycle Status: Production; Max Input Current: 250nA; Max Operating Temperature: 70°C; Min Operating Temperature: 0°C; Mount: Surface Mount; Number of Circuits: 2; Number of Elements: 2; Number of Pins: 8; Number of Terminals: 8; Power Dissipation: 710mW; Quiescent Current: 2.5mA; Radiation Hardening: No; REACH SVHC: Yes; Response Time: 1.3µs; Schedule B: 8542390000, 8542390000|8542390000, 8542390000|8542390000|8542390000, 8542390000|8542390000|8542390000|8542390000; Terminal Pitch: 1.27mm; Turn-On Delay Time: 1.3µs; Type: General Purpose; Weight: 4.535924g; Width: 3.9mm; ComponentLink1URL: https://datasheet.octopart.com:443/LM393D-STMicroelectronics-datasheet-62333484.pdf?src-supplier=SHENGYU+ELECTRONICS; ComponentLink1Description: https://datasheet.octopart.com:443/LM393D-STMicroelectronics-datasheet-62333484.pdf?src-supplier=SHENGYU+ELECTRONICS; ComponentLink2URL: https://datasheet.octopart.com:443/LM393D-STMicroelectronics-datasheet-11803910.pdf?src-supplier=element14+APAC; ComponentLink2Description: https://datasheet.octopart.com:443/LM393D-STMicroelectronics-datasheet-11803910.pdf?src-supplier=element14+APAC; ComponentLink3URL: https://datasheet.octopart.com:443/LM393D-STMicroelectronics-datasheet-10410545.pdf?src-supplier=Future+Electronics; ComponentLink3Description: https://datasheet.octopart.com:443/LM393D-STMicroelectronics-datasheet-10410545.pdf?src-supplier=Future+Electronics; ComponentLink4URL: https://datasheet.octopart.com:443/LM393D-STMicroelectronics-datasheet-21220619.pdf?src-supplier=Future+Electronics; ComponentLink4Description: https://datasheet.octopart.com:443/LM393D-STMicroelectronics-datasheet-21220619.pdf?src-supplier=Future+Electronics; ComponentLink5URL: https://datasheet.octopart.com:443/LM393D-STMicroelectronics-datasheet-14897319.pdf?src-supplier=TME; ComponentLink5Description: https://datasheet.octopart.com:443/LM393D-STMicroelectronics-datasheet-14897319.pdf?src-supplier=TME; ComponentLink6URL: https://datasheet.octopart.com:443/LM393D-STMicroelectronics-datasheet-163154.pdf?src-supplier=element14; ComponentLink6Description: https://datasheet.octopart.com:443/LM393D-STMicroelectronics-datasheet-163154.pdf?src-supplier=element14; ComponentLink7URL: https://datasheet.octopart.com:443/LM393D-STMicroelectronics-datasheet-616567.pdf?src-supplier=element14; ComponentLink7Description: https://datasheet.octopart.com:443/LM393D-STMicroelectronics-datasheet-616567.pdf?src-supplier=element14; ComponentLink8URL: https://datasheet.octopart.com:443/LM393D-STMicroelectronics-datasheet-8451836.pdf?src-supplier=Farnell; ComponentLink8Description: https://datasheet.octopart.com:443/LM393D-STMicroelectronics-datasheet-8451836.pdf?src-supplier=Farnell; ComponentLink9URL: https://datasheet.octopart.com:443/LM393D-STMicroelectronics-datasheet-7654.pdf?src-supplier=Nu+Horizons; ComponentLink9Description: https://datasheet.octopart.com:443/LM393D-STMicroelectronics-datasheet-7654.pdf?src-supplier=Nu+Horizons; ComponentLink10URL: https://datasheet.octopart.com:443/LM393D-STMicroelectronics-datasheet-14143375.pdf?src-supplier=iiiC; ComponentLink10Description: https://datasheet.octopart.com:443/LM393D-STMicroelectronics-datasheet-14143375.pdf?src-supplier=iiiC; ComponentLink11URL: https://datasheet.octopart.com:443/LM393D-STMicroelectronics-datasheet-9797164.pdf?src-supplier=RS+(Formerly+Allied+Electronics); ComponentLink11Description: https://datasheet.octopart.com:443/LM393D-STMicroelectronics-datasheet-9797164.pdf?src-supplier=RS+(Formerly+Allied+Electronics); ComponentLink12URL: https://datasheet.octopart.com:443/LM393D-STMicroelectronics-datasheet-52703.pdf?src-supplier=RS+(Formerly+Allied+Electronics); ComponentLink12Description: https://datasheet.octopart.com:443/LM393D-STMicroelectronics-datasheet-52703.pdf?src-supplier=RS+(Formerly+Allied+Electronics); Supplier Part Number 1: LM393D
footprint LM393
part A pins: 4 -, 5 IN2+, 6 IN2-, 7 OUT2, 8 +
part B pins: 1 OUT1, 2 IN1-, 3 IN1+, 4 -, 8 +

## MH
designator MH?, comment MOUNTING HOLE  (value not drawn)
footprint M3
pins: 1 GND

## MICRO USB B
designator J?, comment MICRO B  (value not drawn)
footprint MICRO USB B
pins: 1 VCC (power), 2 D- (io), 3 D+ (io), 4 ID (io), 5 GND (power), SH1 SHIELD, SH2 SHIELD, SH3 SHIELD, SH4 SHIELD, SH5 SHIELD, SH6 SHIELD

## MMBT3904
designator Q?, comment NMOS  (value not drawn)
MMBT3904 Series 40 V CE Breakdown 0.2 A NPN General Purpose Amplifier - SOT-23; Manufacturer: onsemi; Collector Emitter Voltage (VCEO): 40V; hFE Min: 100; Max Power Dissipation: 350mW; Max Collector Current: 200mA; Transition Frequency: 300MHz; Collector Base Voltage (VCBO): 60V; Emitter Base Voltage (VEBO): 6V; Collector Emitter Saturation Voltage: 300mV; Supplier 1: Farnell; Manufacturer Part Number: MMBT3904; RoHS: Yes; Category: BJTs; Pricing 1: 5=0,136, 25=0,133, 100=0,0476, 250=0,0435, 500=0,043, 1000=0,022, 5000=0,02 (GBP); Mount: Surface Mount; Case/Package: SOT-23; Number of Pins: 3; Weight: 0.03g; Min Operating Temperature: -55°C; Max Operating Temperature: 150°C; Packaging: Tape and Reel; Polarity: NPN; Collector Emitter Breakdown Voltage: 40V; Voltage Rating (DC): 40V; Package Quantity: 1; Max Breakdown Voltage: 40V; Current Rating: 200mA; Series: -; Collector-emitter Voltage-Max: 300mV; Termination: SMD/SMT; Radiation Hardening: No; RoHS Compliant: Yes; Reach SVHC Compliant: No; Lead Free: Lead Free; Supplier Part Number 1: 9846727
footprint SOT23-3
pins: 1 B, 2 E, 3 C

## MMBT3904-7-F
designator Q?
Transistor General Purpose BJT NPN 40 Volt 0.2A Automotive 3-Pin SOT-23; Manufacturer: Diodes Zetex; Max Power Dissipation: 300mW; hFE Min: 100; Max Collector Current: 200mA; Transition Frequency: 300MHz; Collector Emitter Breakdown Voltage: 40V; Collector Base Voltage (VCBO): 60V; Emitter Base Voltage (VEBO): 6V; Collector-emitter Voltage-Max: 300mV; Number of Elements: 1; Power Dissipation: 350mW; Supplier 1: Arrow Electronics; Manufacturer Part Number: MMBT3904-7-F; RoHS: Yes; Category: BJTs; Stock 1: 969000; Pricing 1: 3000=0.0199, 6000=0.017, 9000=0.0168, 15000=0.0149, 21000=0.0147, 30000=0.0128, 75000=0.0127, 150000=0.0126, 300000=0.0105 (USD); Mount: Surface Mount; Case/Package: SOT-23; Number of Pins: 3; Weight: 0.000282oz; Min Operating Temperature: -55°C; Max Operating Temperature: 150°C; Polarity: NPN; Packaging: Tape and Reel; Package Quantity: 3000; Max Breakdown Voltage: 40V; Continuous Collector Current: 200mA; Gain Bandwidth Product: 300MHz; Voltage Rating (DC): 40V; Series: Automotive, AEC-Q101; Frequency: 300MHz; Collector Emitter Voltage (VCEO): 40V; Collector Emitter Saturation Voltage: 300mV; Max Frequency: 300MHz; Length: 3.05mm; Width: 1.4mm; Height: 1mm; Radiation Hardening: No; Reach SVHC Compliant: No; Lead Free: Lead Free; RoHS Compliant: Yes; ComponentLink1URL: https://datasheet.ciiva.com/11201/ds30036-11201778.pdf?src-supplier=Avnet; ComponentLink1Description: https://datasheet.ciiva.com/11201/ds30036-11201778.pdf?src-supplier=Avnet; ComponentLink2URL: https://datasheet.ciiva.com/15138/getdatasheetpartid-53265-15138780.pdf?src-supplier=Verical; ComponentLink2Description: https://datasheet.ciiva.com/15138/getdatasheetpartid-53265-15138780.pdf?src-supplier=Verical; ComponentLink3URL: https://datasheet.ciiva.com/22711/1915516-22711750.pdf?src-supplier=Element14; ComponentLink3Description: https://datasheet.ciiva.com/22711/1915516-22711750.pdf?src-supplier=Element14; ComponentLink4URL: https://datasheet.ciiva.com/11198/ds30036-11198999.pdf?src-supplier=Avnet; ComponentLink4Description: https://datasheet.ciiva.com/11198/ds30036-11198999.pdf?src-supplier=Avnet; ComponentLink5URL: https://datasheet.ciiva.com/6361/ds30036-6361256.pdf?src-supplier=Digikey; ComponentLink5Description: https://datasheet.ciiva.com/6361/ds30036-6361256.pdf?src-supplier=Digikey; ComponentLink6URL: https://datasheet.ciiva.com/6361/ds30036-6361254.pdf?src-supplier=Digikey; ComponentLink6Description: https://datasheet.ciiva.com/6361/ds30036-6361254.pdf?src-supplier=Digikey; Supplier Part Number 1: MMBT3904-7-F
footprint MMBT3904
pins: B, C, E

## R_SHUNT
designator R_SHUNT?, comment 0.01R  (value not drawn)
footprint R_SHUNT
pins: 1, 2

## RESCHP0085 33K 1% 0402 SMD
designator R?, comment 30K
RES CHP 33K 1% 1/16W 0402 SMD; LINE: SMT; UNIT: PCS; TMG CODE: None; CERTIFICATION: NA; CLASS: B; MOUNT: SMD; TYPE: EP; ComponentLink1Description: Datasheet; ComponentLink1URL: https://datasheet.lcsc.com/lcsc/2304140030_YAGEO-AC0402FR-0775KL_C144737.pdf
footprint RES-CHP0402-0.35H (RES CHP 1/16W 0402 SMD)
pins: 1, 2

## RESCHP0085 33K 1% 0402 SMD_1
designator R?, comment 10K
RES CHP 33K 1% 1/16W 0402 SMD; LINE: SMT; UNIT: PCS; TMG CODE: None; CERTIFICATION: NA; CLASS: B; MOUNT: SMD; TYPE: EP; ComponentLink1Description: Datasheet; ComponentLink1URL: https://datasheet.lcsc.com/lcsc/2304140030_YAGEO-AC0402FR-0775KL_C144737.pdf
footprint RES-CHP0402-0.35H (RES CHP 1/16W 0402 SMD)
pins: 1, 2

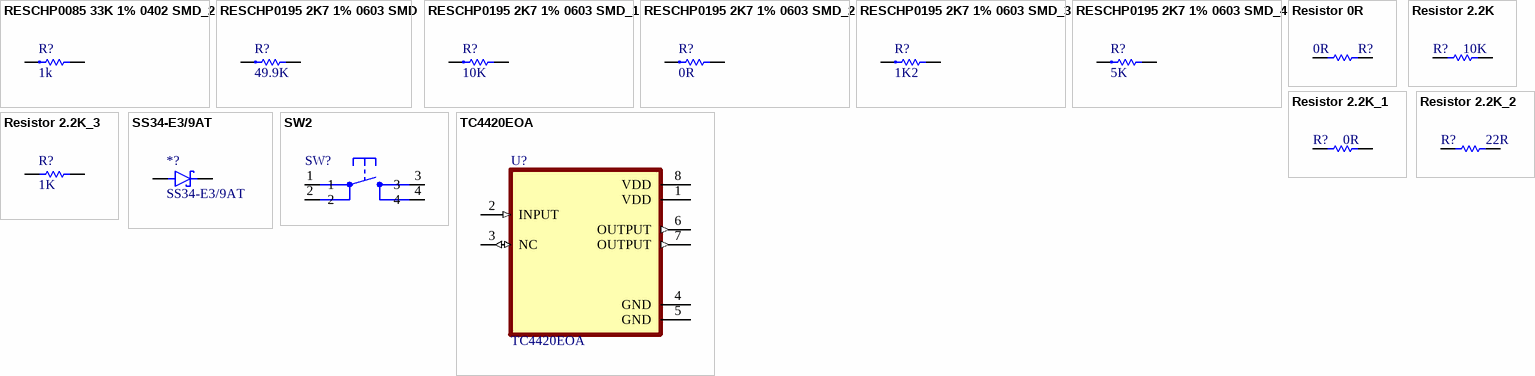
[diagram p1: symbols RESCHP0085 33K 1% 0402 SMD_2 to TC4420EOA]

## RESCHP0085 33K 1% 0402 SMD_2
designator R?, comment 1k
RES CHP 33K 1% 1/16W 0402 SMD; LINE: SMT; UNIT: PCS; TMG CODE: None; CERTIFICATION: NA; CLASS: B; MOUNT: SMD; TYPE: EP; ComponentLink1Description: Datasheet; ComponentLink1URL: https://datasheet.lcsc.com/lcsc/2304140030_YAGEO-AC0402FR-0775KL_C144737.pdf
footprint RES-CHP0402-0.35H (RES CHP 1/16W 0402 SMD)
pins: 1, 2

## RESCHP0195 2K7 1% 0603 SMD
designator R?, comment 49.9K
RES CHP 2K7 1% 1/10W 0603 SMD; LINE: SMT; UNIT: PCS; TMG PN: RESCHP0195; TMG CODE: None; CERTIFICATION: NA; CLASS: B; MOUNT: SMD; TYPE: EP; ComponentLink1Description: Datasheet; ComponentLink1URL: https://datasheet.lcsc.com/lcsc/2304140030_YAGEO-RC0603FR-072K7L_C114612.pdf; Footprint: 0603
footprint RES-CHP0603-0.45H-272 (RES CHP 1/10W 0603 SMD)
pins: 1, 2